# EAGLE library part LTC3109 (library chips)
IC BOOST CONVERTER PMU 20QFN
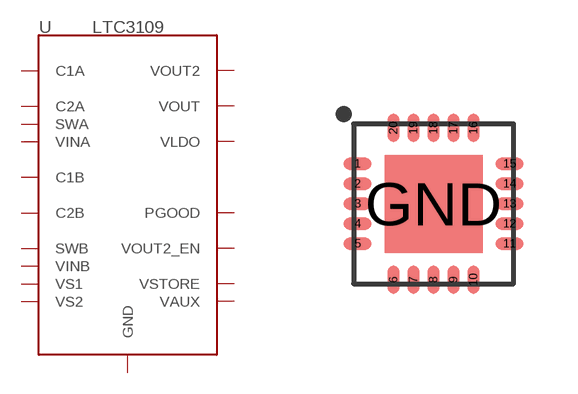
[diagram p15: symbol with the pads of QFN-20-4MM; footprint QFN-20-4MM]

Designator prefix U

## LTC3109EUF (DIGIKEY: LTC3109EUF#PBF-ND; NEWARK: 84R6674)  [QFN-20-4MM]
1  VSTORE
2  VAUX
3  VOUT
4  VOUT2
5  VOUT2_EN
6  PGOOD
7  VLDO
8  GND
9  C1B
10  C2B
11  GND
12  SWB
13  VINB
14  VINA
15  SWA
16  GND
17  C2A
18  C1A
19  VS1
20  VS2
GND  GND

## Footprint QFN-20-4MM (pad centres in mm)
smd 0.7 x 0.3: 1 -1.9,1; 2 -1.9,0.5; 3 -1.9,0; 4 -1.9,-0.5; 5 -1.9,-1; 11 1.9,-1; 12 1.9,-0.5; 13 1.9,0; 14 1.9,0.5; 15 1.9,1
smd 0.3 x 0.7: 6 -1,-1.9; 7 -0.5,-1.9; 8 0,-1.9; 9 0.5,-1.9; 10 1,-1.9; 16 1,1.9; 17 0.5,1.9; 18 0,1.9; 19 -0.5,1.9; 20 -1,1.9
smd 2.45 x 2.45: GND 0,0